# Altium footprint library EMK107B7104KA-T.PcbLib: 3 footprints
Each footprint in its own frame and in the unit in brackets; x right, y up, seen from the top. Pads: shape width x height; smd on the part's side, far side on the other; paste and mask are expansions set on the pad; w line width, h text height; cw(c..) or ccw(c..) is an arc to the next point about the centre after c.
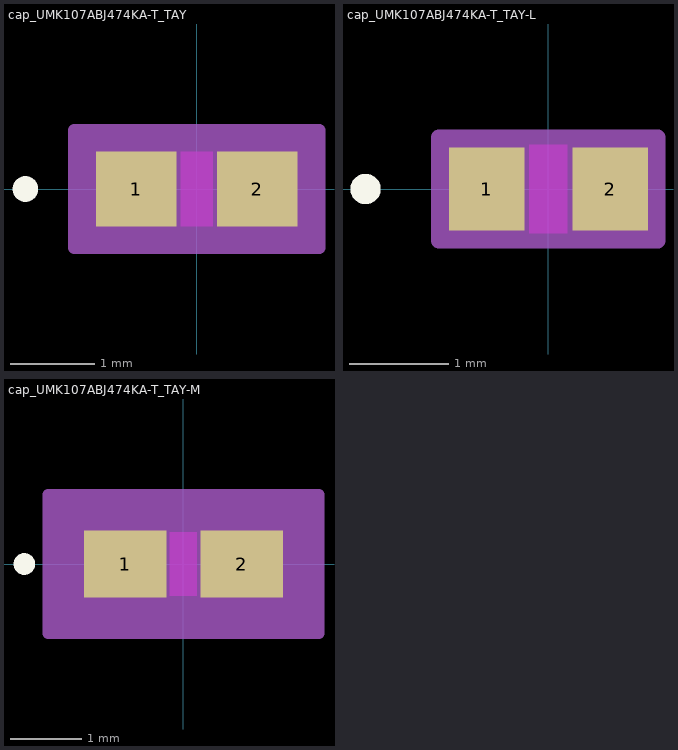
[diagram p0: the footprints below, top view; thin cyan lines are the x and y axes]

## cap_UMK107ABJ474KA-T_TAY [mil]
pads (2):
  rect 37.78x35 smd paste+0 mask+0: 1(-28.39,0) 2(28.39,0)
Top Layer keep-out:
  region: -7.5,-15.5 -7.5,15.5 7.5,15.5 7.5,-15.5
Top Overlay:
  circle w6: c-80.28,0 r3
  text ".Designator" at -137.5,-25 h50
Keep-Out Layer:
  region: -7.5,-17.5 -7.5,17.5 7.5,17.5 7.5,-17.5
Mechanical 13:
  circle w1: c-23.39,0 r3
  lines w1: -33.5,-17.5 -33.5,17.5 ; -33.5,-17.5 -9.5,-17.5 -9.5,17.5 -33.5,17.5 ; -33.5,-17.5 33.5,-17.5 ; -33.5,-17.5 -33.5,17.5 ; -33.5,17.5 33.5,17.5 ; 33.5,-17.5 9.5,-17.5 9.5,17.5 33.5,17.5 ; 33.5,-17.5 33.5,17.5 ; 33.5,-17.5 33.5,17.5
  text ".Designator" at -137.5,-25 h50
Mechanical 15:
  region: 57.28,-27.5 -57.28,-27.5 -57.28,27.5 57.28,27.5
  lines w6: -57.28,-27.5 -57.28,27.5 57.28,27.5 57.28,-27.5 -57.28,-27.5
3D body "cap_UMK107ABJ474KA-T_TAY.step": height 35, standoff 0, extent -33.5,-17.48 33.5,17.48

## cap_UMK107ABJ474KA-T_TAY-L [mil]
pads (2):
  rect 29.91x33.03 smd paste+0 mask+0: 1(-24.45,0) 2(24.45,0)
Top Layer keep-out:
  region: -7.5,-15.5 -7.5,15.5 7.5,15.5 7.5,-15.5
Top Overlay:
  circle w6: c-72.41,0 r3
  text ".Designator" at -137.5,-25 h50
Keep-Out Layer:
  region: -7.5,-17.5 -7.5,17.5 7.5,17.5 7.5,-17.5
Mechanical 13:
  circle w1: c-19.45,0 r3
  lines w1: -33.5,-17.5 -33.5,17.5 ; -33.5,-17.5 -9.5,-17.5 -9.5,17.5 -33.5,17.5 ; -33.5,-17.5 33.5,-17.5 ; -33.5,-17.5 -33.5,17.5 ; -33.5,17.5 33.5,17.5 ; 33.5,-17.5 9.5,-17.5 9.5,17.5 33.5,17.5 ; 33.5,-17.5 33.5,17.5 ; 33.5,-17.5 33.5,17.5
  text ".Designator" at -137.5,-25 h50
Mechanical 15:
  region: 43.41,-20.52 -43.41,-20.52 -43.41,20.52 43.41,20.52
  lines w6: -43.41,-20.52 -43.41,20.52 43.41,20.52 43.41,-20.52 -43.41,-20.52
3D body "cap_UMK107ABJ474KA-T_TAY.step": height 35, standoff 0, extent -33.5,-17.48 33.5,17.48

## cap_UMK107ABJ474KA-T_TAY-M [mil]
pads (2):
  rect 45.65x36.97 smd paste+0 mask+0: 1(-32.33,0) 2(32.33,0)
Top Layer keep-out:
  region: -7.5,-15.5 -7.5,15.5 7.5,15.5 7.5,-15.5
Top Overlay:
  circle w6: c-88.15,0 r3
  text ".Designator" at -137.5,-25 h50
Keep-Out Layer:
  region: -7.5,-17.5 -7.5,17.5 7.5,17.5 7.5,-17.5
Mechanical 13:
  circle w1: c-27.33,0 r3
  lines w1: -33.5,-17.5 -33.5,17.5 ; -33.5,-17.5 -9.5,-17.5 -9.5,17.5 -33.5,17.5 ; -33.5,-17.5 33.5,-17.5 ; -33.5,-17.5 -33.5,17.5 ; -33.5,17.5 33.5,17.5 ; 33.5,-17.5 9.5,-17.5 9.5,17.5 33.5,17.5 ; 33.5,-17.5 33.5,17.5 ; 33.5,-17.5 33.5,17.5
  text ".Designator" at -137.5,-25 h50
Mechanical 15:
  region: 75.15,-38.48 -75.15,-38.48 -75.15,38.48 75.15,38.48
  lines w6: -75.15,-38.48 -75.15,38.48 75.15,38.48 75.15,-38.48 -75.15,-38.48
3D body "cap_UMK107ABJ474KA-T_TAY.step": height 35, standoff 0, extent -33.5,-17.48 33.5,17.48